# Altium schematic symbol library LED.SchLib: 1 symbol
Pins are listed as number, name and electrical type; pins without a type are passive.

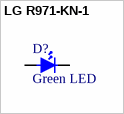
[diagram p0: symbol LG R971-KN-1]

## LG R971-KN-1
designator D?, comment Green LED
Green 570nm LED Indication - Discrete 2.2V 0805 (2012 Metric)
footprint Diode_0805
pins: +, -